# Altium footprint library SIM-SMD_SMN-303.PcbLib: 1 footprints
Each footprint in its own frame and in the unit in brackets; x right, y up, seen from the top. Pads: shape width x height; smd on the part's side, far side on the other; paste and mask are expansions set on the pad; w line width, h text height; cw(c..) or ccw(c..) is an arc to the next point about the centre after c.
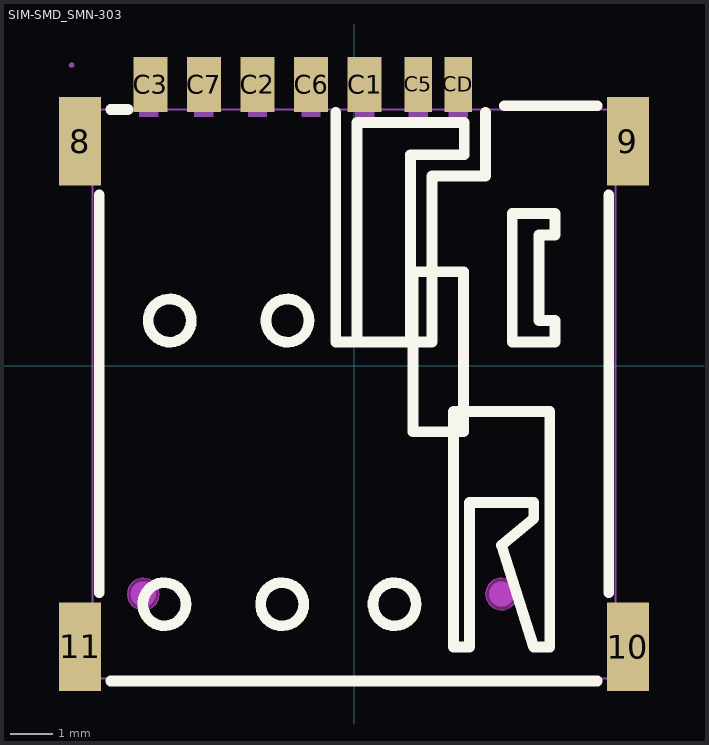
[diagram p0: the footprint, top view; thin cyan lines are the x and y axes]

## SIM-SMD_SMN-303 [mm]
pads (11):
  rect 1x2.1 smd: 8(-6.5,5.328) 9(6.5,5.328) 10(6.5,-6.672) 11(-6.5,-6.672)
  rect 0.8x1.3 smd: C1(0.25,6.672) C2(-2.29,6.672) C3(-4.83,6.672) C6(-1.02,6.672) C7(-3.56,6.672)
  rect 0.65x1.3 smd: C5(1.52,6.672) CD(2.47,6.672)
Top Overlay:
  circle w0.254: c-4.372,1.068 r0.512
  circle w0.254: c-1.578,1.068 r0.512
  circle w0.254: c-4.499,-5.663 r0.512
  circle w0.254: c-1.705,-5.663 r0.512
  circle w0.254: c0.962,-5.663 r0.512
  lines w0.254: -6.042,-5.391 -6.042,4.047 ; -5.769,-7.486 5.769,-7.486 ; -5.769,6.078 -5.365,6.078 ; -0.435,6.007 -0.435,0.56 1.851,0.56 1.851,4.497 3.121,4.497 ; 0.073,0.56 0.073,5.767 2.613,5.767 2.613,5.005 1.343,5.005 1.343,0.56 ; 3.569,6.164 5.769,6.164 ; 6.042,-5.391 6.042,4.047 ; 3.121,4.497 3.121,6.007 3.121,4.497 ; 1.4,-1.572 2.6,-1.572 2.6,2.228 1.4,2.228 1.4,-1.572 ; 2.359,-6.679 2.74,-6.679 2.74,-3.25 4.264,-3.25 4.264,-3.631 3.502,-4.266 4.264,-6.679 4.645,-6.679 4.645,-1.091 2.359,-1.091 2.359,-6.679 ; 3.756,0.56 3.756,3.608 4.772,3.608 4.772,3.1 4.391,3.1 4.391,1.068 4.772,1.068 4.772,0.56 3.756,0.56
Keep-Out Layer:
  board cut-out: -4.618,-5.422 -4.647,-5.276 -4.73,-5.152 -4.854,-5.069 -5,-5.04 -5.146,-5.069 -5.27,-5.152 -5.353,-5.276 -5.382,-5.422 -5.353,-5.568 -5.27,-5.692 -5.146,-5.775 -5,-5.804 -4.854,-5.775 -4.73,-5.692 -4.647,-5.568
  board cut-out: 3.882,-5.422 3.853,-5.276 3.77,-5.152 3.646,-5.069 3.5,-5.04 3.354,-5.069 3.23,-5.152 3.147,-5.276 3.118,-5.422 3.147,-5.568 3.23,-5.692 3.354,-5.775 3.5,-5.804 3.646,-5.775 3.77,-5.692 3.853,-5.568
Mechanical 1:
  circle w0.005: c-5,-5.422 r0.375
  circle w0.005: c3.5,-5.422 r0.375
Mechanical 6:
  circle w0.3: c-5,-5.422 r0.15
  circle w0.3: c3.5,-5.422 r0.15
Mechanical 15:
  region: -6.635,7.128 -6.654,7.174 -6.7,7.193 -6.746,7.174 -6.765,7.128 -6.746,7.082 -6.7,7.063 -6.654,7.082
  region: 2.245,7.128 2.695,7.128 2.695,5.9 2.245,5.9
  region: 1.295,7.128 1.745,7.128 1.745,5.9 1.295,5.9
  region: -3.785,7.128 -3.335,7.128 -3.335,5.9 -3.785,5.9
  region: -5.1,7.128 -4.65,7.128 -4.65,5.9 -5.1,5.9
  region: -6.7,6.078 -6.15,6.078 -6.15,4.578 -6.7,4.578
  region: -6.7,-5.922 -6.15,-5.922 -6.15,-7.422 -6.7,-7.422
  region: 6.15,-5.922 6.7,-5.922 6.7,-7.422 6.15,-7.422
  region: 6.15,6.078 6.7,6.078 6.7,4.578 6.15,4.578
  region: -2.515,7.128 -2.065,7.128 -2.065,5.9 -2.515,5.9
  region: -1.245,7.128 -0.795,7.128 -0.795,5.9 -1.245,5.9
  region: 0.025,7.128 0.475,7.128 0.475,5.9 0.025,5.9
  lines w0.051: -6.206,-7.422 -6.206,6.078 6.206,6.078 6.206,-7.422 -6.206,-7.422
Multi-Layer:
  pour cut-out: -4.618,-5.422 -4.647,-5.276 -4.73,-5.152 -4.854,-5.069 -5,-5.04 -5.146,-5.069 -5.27,-5.152 -5.353,-5.276 -5.382,-5.422 -5.353,-5.568 -5.27,-5.692 -5.146,-5.775 -5,-5.804 -4.854,-5.775 -4.73,-5.692 -4.647,-5.568
  pour cut-out: 3.882,-5.422 3.853,-5.276 3.77,-5.152 3.646,-5.069 3.5,-5.04 3.354,-5.069 3.23,-5.152 3.147,-5.276 3.118,-5.422 3.147,-5.568 3.23,-5.692 3.354,-5.775 3.5,-5.804 3.646,-5.775 3.77,-5.692 3.853,-5.568